# EAGLE library part MCP3204 (library ElectricNoodleBox)
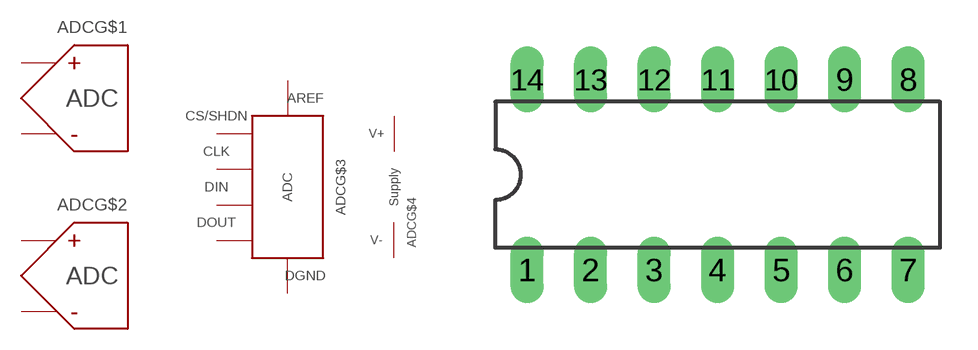
[diagram p30: symbol with the pads of DIL14; footprint DIL14]

Designator prefix ADC; gates G$1=ADCDUAL G$2=ADCDUAL G$3=MCP3208_CORE G$4=SUPPLYPINS

## MCP3204  [DIL14]
1  G$1:IN+  in
2  G$1:IN-
3  G$2:IN+  in
4  G$2:IN-
7  G$3:DGND  in
8  G$3:CS/SHDN  in
9  G$3:DIN  in
10  G$3:DOUT  out
11  G$3:CLK  in
12  G$4:V-
13  G$3:AREF  in
14  G$4:V+

## Footprint DIL14 (pad centres in mm)
Dual In Line Package
drill 0.813 long: 1 -7.62,-3.81; 2 -5.08,-3.81; 3 -2.54,-3.81; 4 0,-3.81; 5 2.54,-3.81; 6 5.08,-3.81; 7 7.62,-3.81; 8 7.62,3.81; 9 5.08,3.81; 10 2.54,3.81; 11 0,3.81; 12 -2.54,3.81; 13 -5.08,3.81; 14 -7.62,3.81